# Altium schematic symbol library CN 3.5MM JACK.Schlib: 1 symbol
Pins are listed as number, name and electrical type; pins without a type are passive.

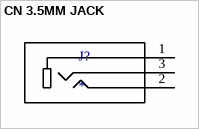
[diagram p0: symbol CN 3.5MM JACK]

## CN 3.5MM JACK
designator J?
CN JACK STEREO 3.5MM R/A
pins: 1, 2, 3